# EAGLE library part ATMEGA328P-28PIN (library MrSwirlyEyes)
ATMEGA328P 28PIN IC
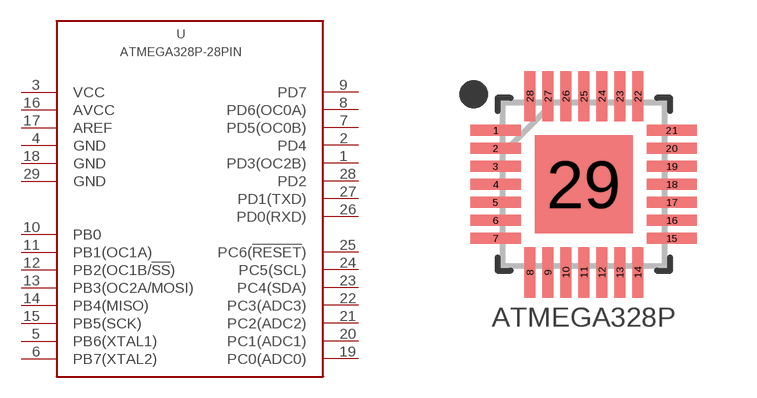
[diagram p7: symbol with the pads of ATMEGA328P-MMHR; footprint ATMEGA328P-MMHR]

Designator prefix U

## ATMEGA328P-28PIN-28PIN-M1 (CREATOR: Kenmei; DATASHEET: http://www.atmel.com/Images/Atmel-42735-8-bit-AVR-Microcontroller-ATmega328-328P_Datasheet.pdf; DIST: Digikey; DISTLINK: https://www.digikey.com/products/en?keywords=ATMEGA328P-MMHRCT-ND%20; DISTPN: ATMEGA328P-MMHRCT-ND; MFR: Microchip Technology; MPN: ATMEGA328P-MMHR; TESTED: NO; VALUE: ATMEGA328P)  [ATMEGA328P-MMHR]
1  PD3(OC2B)
2  PD4
3  VCC
4  GND
5  PB6(XTAL1)
6  PB7(XTAL2)
7  PD5(OC0B)
8  PD6(OC0A)
9  PD7
10  PB0
11  PB1(OC1A)
12  PB2(OC1B/!SS!)
13  PB3(OC2A/MOSI)
14  PB4(MISO)
15  PB5(SCK)
16  AVCC
17  AREF
18  GND
19  PC0(ADC0)
20  PC1(ADC1)
21  PC2(ADC2)
22  PC3(ADC3)
23  PC4(SDA)
24  PC5(SCL)
25  PC6(!RESET!)
26  PD0(RXD)
27  PD1(TXD)
28  PD2
29  GND

## Footprint ATMEGA328P-MMHR (pad centres in mm)
smd 1.256 x 0.27: 1 -2.203,1.35; 2 -2.203,0.9; 3 -2.203,0.45; 4 -2.203,0; 5 -2.203,-0.45; 6 -2.203,-0.9; 7 -2.203,-1.35; 15 2.203,-1.35; 16 2.203,-0.9; 17 2.203,-0.45; 18 2.203,0; 19 2.203,0.45; 20 2.203,0.9; 21 2.203,1.35
smd 0.27 x 1.256: 8 -1.35,-2.203; 9 -0.9,-2.203; 10 -0.45,-2.203; 11 0,-2.203; 12 0.45,-2.203; 13 0.9,-2.203; 14 1.35,-2.203; 22 1.35,2.203; 23 0.9,2.203; 24 0.45,2.203; 25 0,2.203; 26 -0.45,2.203; 27 -0.9,2.203; 28 -1.35,2.203
smd 2.45 x 2.45: 29 0,0